# EAGLE library part MCP73833-AMI_UN (library MCP73833-AMI_UN)
Microchip MCP73833-AMI/UN, Battery Charge Controller Lithium-Ion, Lithium-Polymer, 10-Pin MSOP Source: Datasheet <http://componentsearchengine.com/Datasheets/1/MCP73833-AMI_UN.pdf>
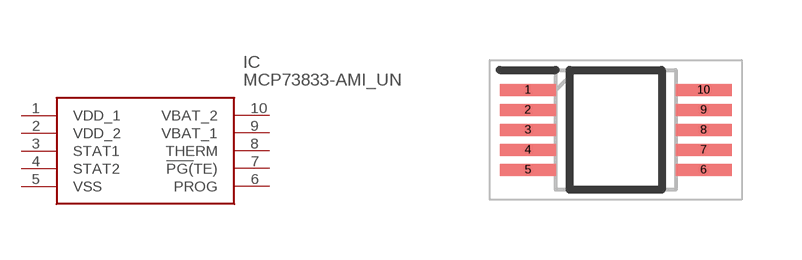
[diagram p0: symbol with the pads of SOP50P490X110-10N; footprint SOP50P490X110-10N]

Designator prefix IC

## MCP73833-AMI_UN (Allied_Number: 70046200; Allied_Price-Stock: https://www.alliedelec.com/microchiptechnologyinc-mcp73833-ami-un/70046200/; Description: Microchip MCP73833-AMI/UN, Battery Charge Controller Lithium-Ion, Lithium-Polymer, 10-Pin MSOP; Height: 1.1mm; Manufacturer_Name: Microchip; Manufacturer_Part_Number: MCP73833-AMI/UN; Mouser_Part_Number: 579-MCP73833-AMI/UN; Mouser_Price-Stock: https://www.mouser.com/Search/Refine.aspx?Keyword=579-MCP73833-AMI%2FUN; RS_Part_Number: 7386373P; RS_Price-Stock: http://uk.rs-online.com/web/p/products/7386373P)  [SOP50P490X110-10N]
1  VDD_1
2  VDD_2
3  STAT1
4  STAT2
5  VSS
6  PROG
7  !PG(!TE)
8  THERM
9  VBAT_1
10  VBAT_2

## Footprint SOP50P490X110-10N (pad centres in mm)
10-Lead Plastic Micro Small Outline Package (UN) (MSOP)
smd 1.4 x 0.3: 1 -2.2,1; 2 -2.2,0.5; 3 -2.2,0; 4 -2.2,-0.5; 5 -2.2,-1; 6 2.2,-1; 7 2.2,-0.5; 8 2.2,0; 9 2.2,0.5; 10 2.2,1